# Altium footprint library 28Pins_prjct.PcbLib: 30 footprints (part 1 of 2)
Each footprint in its own frame and in the unit in brackets; x right, y up, seen from the top. Pads: shape width x height; smd on the part's side, far side on the other; paste and mask are expansions set on the pad; w line width, h text height; cw(c..) or ccw(c..) is an arc to the next point about the centre after c.
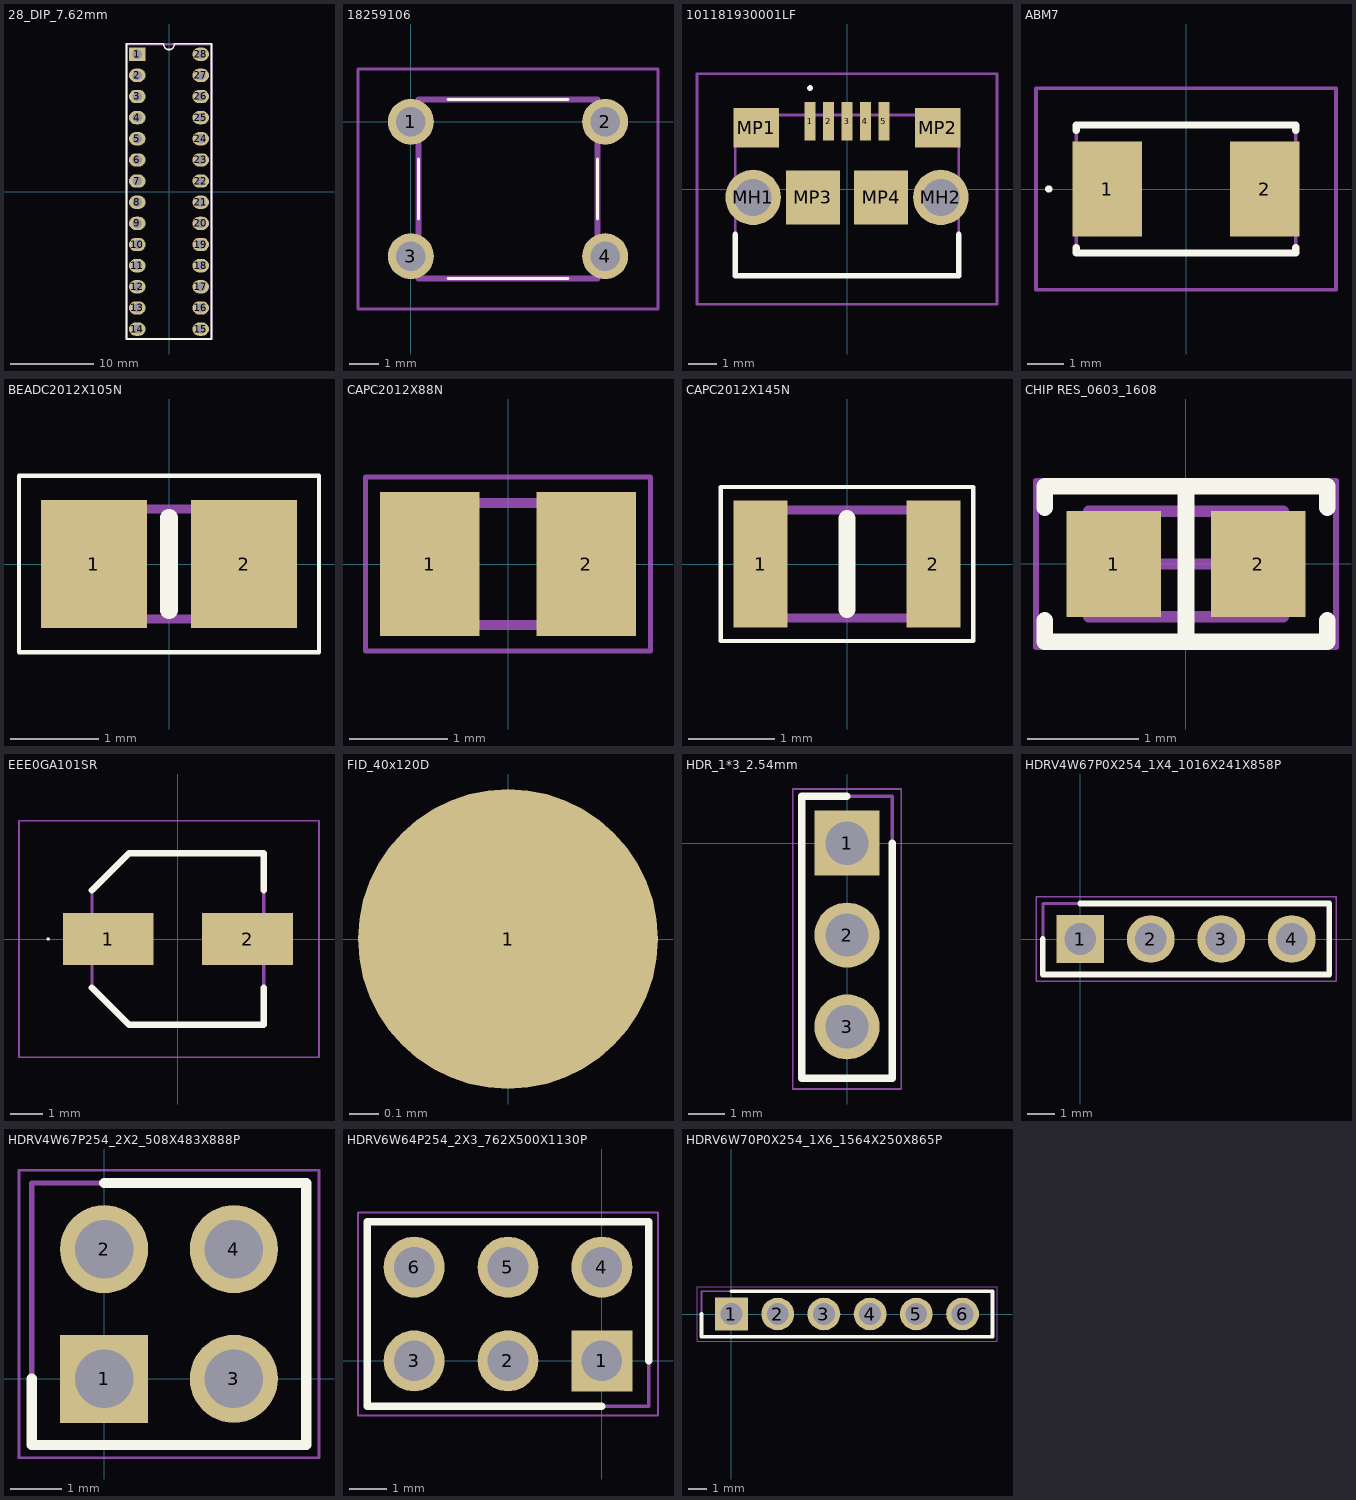
[diagram p0: the footprints below, top view; thin cyan lines are the x and y axes]

## 28_DIP_7.62mm [mm]
pads (28):
  rect 2x1.6 hole 1.1: 1(-3.81,16.51)
  oval 2x1.6 hole 1.1: 2(-3.81,13.97) 3(-3.81,11.43) 4(-3.81,8.89) 5(-3.81,6.35) 6(-3.81,3.81) 7(-3.81,1.27) 8(-3.81,-1.27) 9(-3.81,-3.81) 10(-3.81,-6.35) 11(-3.81,-8.89) 12(-3.81,-11.43) 13(-3.81,-13.97) 14(-3.81,-16.51) 15(3.81,-16.51) 16(3.81,-13.97) 17(3.81,-11.43) 18(3.81,-8.89) 19(3.81,-6.35) 20(3.81,-3.81) 21(3.81,-1.27) 22(3.81,1.27) 23(3.81,3.81) 24(3.81,6.35) 25(3.81,8.89) 26(3.81,11.43) 27(3.81,13.97) 28(3.81,16.51)
Top Overlay:
  lines w0.2: -0.635,17.744 ccw(c0,17.7) 0.635,17.744 ; -0.635,17.78 -5.1,17.78 -5.1,-17.7 5.1,-17.7 5.1,17.78 0.635,17.78
Mechanical 29:
  circle w0.5: c-3.81,16.51 r0.39
  lines w0.254: -5.1,-17.7 5.1,-17.7 5.1,17.7 -5.1,17.7 -5.1,-17.7
  text ".Designator" at 0.9,-6.1 h3
3D body "DIP-28 N.step": height 7.5, standoff 0.15, extent -4.568,-17.6 4.568,17.6

## 28_DIP_7.62mm_SOCKET [mm]
3D body "dil_socket.stp": height 4.2, standoff -3.17, extent -1.24,-34.26 8.86,1.24

## 18259106 [mm]
pads (4):
  round 1.54 hole 0.99: 1(0,0) 2(6.5,0) 3(0,-4.5) 4(6.5,-4.5)
Top Overlay:
  lines w0.1: 0.25,-1.25 0.255,-3.25 ; 1.25,-5.25 5.25,-5.25 ; 1.25,0.75 5.25,0.75 ; 6.245,-1.25 6.25,-3.25
Mechanical 13:
  lines w0.2: 0.255,-5.245 0.255,0.745 6.245,0.745 6.245,-5.245 0.255,-5.245
Mechanical 15:
  lines w0.1: -1.77,-6.27 -1.77,1.77 8.27,1.77 8.27,-6.27 -1.77,-6.27
3D body "1825910-6.stp": height 5.64, standoff -2.87, extent -0.65,-5.245 7.15,0.745

## 101181930001LF [mm]
pads (11):
  rect 0.4x1.35 smd: 1(-1.3,2.38) 2(-0.65,2.38) 3(0,2.38) 4(0.65,2.38) 5(1.3,2.38)
  round 1.95 hole 1.3: MH1(-3.3,-0.295) MH2(3.3,-0.295)
  rect 1.6x1.4 smd: MP1(-3.2,2.155) MP2(3.2,2.155)
  rect 1.9x1.9 smd: MP3(-1.2,-0.295) MP4(1.2,-0.295)
Top Overlay:
  lines w0.1: -1.3,3.5 ccw(c-1.3,3.55) -1.3,3.6 ccw(c-1.3,3.55) -1.3,3.5
  lines w0.2: -3.93,-1.6 -3.93,-3.055 3.93,-3.055 3.93,-1.6
Mechanical 13:
  lines w0.1: -3.93,-3.055 -3.93,2.605 3.93,2.605 3.93,-3.055 -3.93,-3.055
Mechanical 15:
  lines w0.1: -5.275,-4.055 -5.275,4.055 5.275,4.055 5.275,-4.055 -5.275,-4.055
3D body "10118193-0001LF.stp": height 3.4, standoff -5, extent -3.93,-3.055 3.93,3.015

## ABM7 [mm]
pads (2):
  rect 1.9x2.6 smd: 1(-2.15,0) 2(2.15,0)
Top Overlay:
  lines w0.1: -3.8,0 cw(c-3.75,0) -3.7,0 cw(c-3.75,0) -3.8,0
  lines w0.2: -3,-1.6 -3,-1.75 3,-1.75 3,-1.6 ; -3,1.6 -3,1.75 3,1.75 3,1.6
Mechanical 13:
  lines w0.1: -3,-1.75 -3,1.75 3,1.75 3,-1.75 -3,-1.75
Mechanical 15:
  lines w0.1: -4.1,-2.75 -4.1,2.75 4.1,2.75 4.1,-2.75 -4.1,-2.75
3D body "ABM7-16.000MHZ-D2Y-T.stp": height 1.4, standoff 0, extent -3,-1.75 3,1.75

## BEADC2012X105N [mm]
pads (2):
  rect 1.2x1.45 smd: 1(-0.85,0) 2(0.85,0)
Top Overlay:
  lines w0.05: -1.7,-1 1.7,-1 1.7,1 -1.7,1 -1.7,-1
  lines w0.2: 0,-0.525 0,0.525
Mechanical 13:
  lines w0.1: -1,-0.625 -1,0.625 1,0.625 1,-0.625 -1,-0.625
3D body "MPZ2012S601AT000.stp": height 1.05, standoff 0, extent -1,-0.625 1,0.625

## CAPC2012X88N [mm]
pads (2):
  rect 1.02x1.47 smd: 1(-0.8,0) 2(0.8,0)
Mechanical 13:
  lines w0.1: -1,-0.625 1,-0.625 1,0.625 -1,0.625 -1,-0.625
Mechanical 15:
  lines w0.05: -1.46,-0.89 1.46,-0.89 1.46,0.89 -1.46,0.89 -1.46,-0.89
3D body "C0805C180J5GAC-TU.stp": height 0.88, standoff 0, extent -1.1,-0.73 1.1,0.72

## CAPC2012X145N [mm]
pads (2):
  rect 0.62x1.47 smd: 1(-1,0) 2(1,0)
Top Overlay:
  lines w0.05: -1.46,-0.89 1.46,-0.89 1.46,0.89 -1.46,0.89 -1.46,-0.89
  lines w0.2: 0,-0.525 0,0.525
Mechanical 13:
  lines w0.1: -1,-0.625 1,-0.625 1,0.625 -1,0.625 -1,-0.625
3D body "C2012X7R1H104K_085AA_.stp": height 1.45, standoff 0, extent -1,-0.625 1,0.625

## CHIP RES_0603_1608 [mm]
pads (2):
  rect 0.85x0.95 smd: 1(-0.649,-0.001) 2(0.651,-0.001)
Top Overlay:
  lines w0.15: -1.269,-0.509 -1.269,-0.701 1.271,-0.701 1.271,-0.509 ; -1.269,0.507 -1.269,0.699 1.271,0.699 1.271,0.507 ; 0.001,-0.701 0.001,0.699
Mechanical 13:
  lines w0.1: -0.874,-0.476 0.876,-0.476 0.876,0.474 -0.874,0.474 -0.874,-0.476
Mechanical 15:
  lines w0.05: -1.349,-0.751 1.351,-0.751 1.351,0.749 -1.349,0.749 -1.349,-0.751
  lines w0.1: -0.474,-0.001 0.476,-0.001 ; 0.001,-0.476 0.001,0.474
3D body "0603 resistor.STEP": height 0.45, standoff 0, extent -0.799,-0.401 0.801,0.399

## EEE0GA101SR [mm]
pads (2):
  rect 2.8x1.6 smd: 1(-2.15,0) 2(2.15,0)
Top Overlay:
  lines w0.05: -4.025,0 cw(c-4,0) -3.975,0 cw(c-4,0) -4.025,0
  lines w0.2: -2.65,-1.5 -1.5,-2.65 2.65,-2.65 2.65,-1.5 ; -2.65,1.5 -1.5,2.65 2.65,2.65 2.65,1.5
Mechanical 13:
  lines w0.1: -2.65,1.5 -1.5,2.65 ; -2.65,1.5 -2.65,-1.5 -1.5,-2.65 2.65,-2.65 2.65,2.65 -1.5,2.65 ; -2.65,1.5 -1.5,2.65
Mechanical 15:
  lines w0.05: -4.9,-3.65 -4.9,3.65 4.35,3.65 4.35,-3.65 -4.9,-3.65
3D body "EEE-1AA101WR.stp": height 0, standoff 0, extent 0,0 0,0

## FID_40x120D [mil]
pads (1):
  round 40 smd paste-40 mask+40: 1(0,0)

## HDR_1*3_2.54mm [mm]
pads (3):
  rect 1.8x1.8 hole 1.2: 1(0,0)
  round 1.8 hole 1.2: 2(0,-2.54) 3(0,-5.08)
Top Overlay:
  lines w0.2: 0,1.3 -1.25,1.3 -1.25,-6.5 1.25,-6.5 1.25,0
Mechanical 13:
  lines w0.1: -1.25,-6.5 -1.25,1.3 1.25,1.3 1.25,-6.5 -1.25,-6.5
Mechanical 15:
  lines w0.05: -1.5,-6.8 1.5,-6.8 1.5,1.5 -1.5,1.5 -1.5,-6.8
3D body "HDR_1x3_White.stp": height 8.39, standoff -3.11, extent -1.205,-6.15 1.205,1.07

## HDRV4W67P0X254_1X4_1016X241X858P [mm]
pads (4):
  rect 1.725x1.725 hole 1.15: 1(0,0)
  round 1.725 hole 1.15: 2(2.54,0) 3(5.08,0) 4(7.62,0)
Top Overlay:
  lines w0.2: -1.345,0 -1.345,-1.28 8.965,-1.28 8.965,1.28 0,1.28
Mechanical 13:
  lines w0.1: -1.345,-1.28 -1.345,1.28 8.965,1.28 8.965,-1.28 -1.345,-1.28
Mechanical 15:
  lines w0.05: -1.595,-1.53 -1.595,1.53 9.215,1.53 9.215,-1.53 -1.595,-1.53
3D body "68001-204HLF.stp": height 8.38, standoff -3.05, extent -1.27,-1.206 8.89,1.206

## HDRV4W67P254_2X2_508X483X888P [mm]
pads (4):
  rect 1.725x1.725 hole 1.15: 1(0,0)
  round 1.725 hole 1.15: 2(0,2.54) 3(2.54,0) 4(2.54,2.54)
Top Overlay:
  lines w0.2: -1.42,0 -1.42,-1.295 3.96,-1.295 3.96,3.835 0,3.835
Mechanical 13:
  lines w0.1: -1.42,-1.295 -1.42,3.835 3.96,3.835 3.96,-1.295 -1.42,-1.295
Mechanical 15:
  lines w0.05: -1.67,-1.545 -1.67,4.085 4.21,4.085 4.21,-1.545 -1.67,-1.545
3D body "68602-204HLF.stp": height 8.88, standoff -4.06, extent -1.27,-1.145 3.81,3.685

## HDRV6W64P254_2X3_762X500X1130P [mm]
pads (6):
  rect 1.65x1.65 hole 1.1: 1(0,0)
  round 1.65 hole 1.1: 2(-2.54,0) 3(-5.08,0) 4(0,2.54) 5(-2.54,2.54) 6(-5.08,2.54)
Top Overlay:
  lines w0.2: 0,-1.23 -6.35,-1.23 -6.35,3.77 1.27,3.77 1.27,0
Mechanical 13:
  lines w0.1: -6.35,-1.23 1.27,-1.23 1.27,3.77 -6.35,3.77 -6.35,-1.23
Mechanical 15:
  lines w0.05: -6.6,-1.48 1.52,-1.48 1.52,4.02 -6.6,4.02 -6.6,-1.48
3D body "961206-6404-AR.stp": height 11.3, standoff -3.3, extent -6.35,-1.23 1.27,3.77

## HDRV6W70P0X254_1X6_1564X250X865P [mm]
pads (6):
  rect 1.8x1.8 hole 1.2: 1(0,0)
  round 1.8 hole 1.2: 2(2.54,0) 3(5.08,0) 4(7.62,0) 5(10.16,0) 6(12.7,0)
Top Overlay:
  lines w0.2: -1.645,0 -1.645,-1.25 14.345,-1.25 14.345,1.25 0,1.25
Mechanical 13:
  lines w0.1: -1.645,-1.25 14.345,-1.25 14.345,1.25 -1.645,1.25 -1.645,-1.25
Mechanical 15:
  lines w0.05: -1.895,-1.5 14.595,-1.5 14.595,1.5 -1.895,1.5 -1.895,-1.5
3D body "M20-7820646.stp": height 8.65, standoff -3.25, extent -1.47,-1.25 14.17,1.25